# EAGLE library part AVR_SPI_PRG_6 (library mkfab)
AVR ISP 6 Pin This is the reduced ISP connector for AVR programming. Common on Arduino. This footprint will take up less PCB space and can be used with a 10-pin to 6-pin adapter such as SKU: BOB-08508
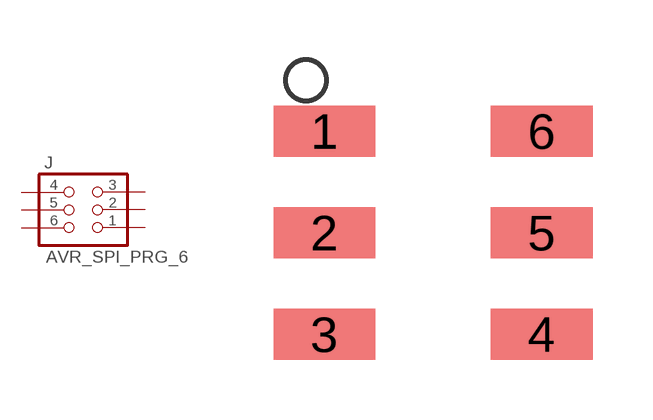
[diagram p0: symbol with the pads of 2X3_SMT; footprint 2X3_SMT]

Designator prefix J

## AVR_SPI_PRG_6  [2X3_SMT]
1  GND  pas
2  MOSI  pas
3  V  pas
4  MISO  pas
5  SCK  pas
6  RESET  pas

## Footprint 2X3_SMT (pad centres in mm)
6-pin ISP header for AVR chips, surface mount.
smd 2.54 x 1.27: 1 -2.718,2.54; 2 -2.718,0; 3 -2.718,-2.54; 4 2.718,-2.54; 5 2.718,0; 6 2.718,2.54